# Altium schematic symbol library IND,120nH,110mA,Wirewound,0402.Schlib: 1 symbol
Pins are listed as number, name and electrical type; pins without a type are passive.

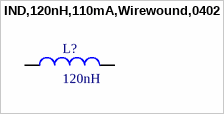
[diagram p0: symbol IND,120nH,110mA,Wirewound,0402]

## IND,120nH,110mA,Wirewound,0402
designator L?, comment 120nH
120 nH Unshielded Drum Core, Wirewound Inductor 110 mA 2.66Ohm Max 0402 (1005 Metric)
pins: 1, 2